# Altium footprint library ESD7008MUTAG.PcbLib: 1 footprints
Each footprint in its own frame and in the unit in brackets; x right, y up, seen from the top. Pads: shape width x height; smd on the part's side, far side on the other; paste and mask are expansions set on the pad; w line width, h text height; cw(c..) or ccw(c..) is an arc to the next point about the centre after c.
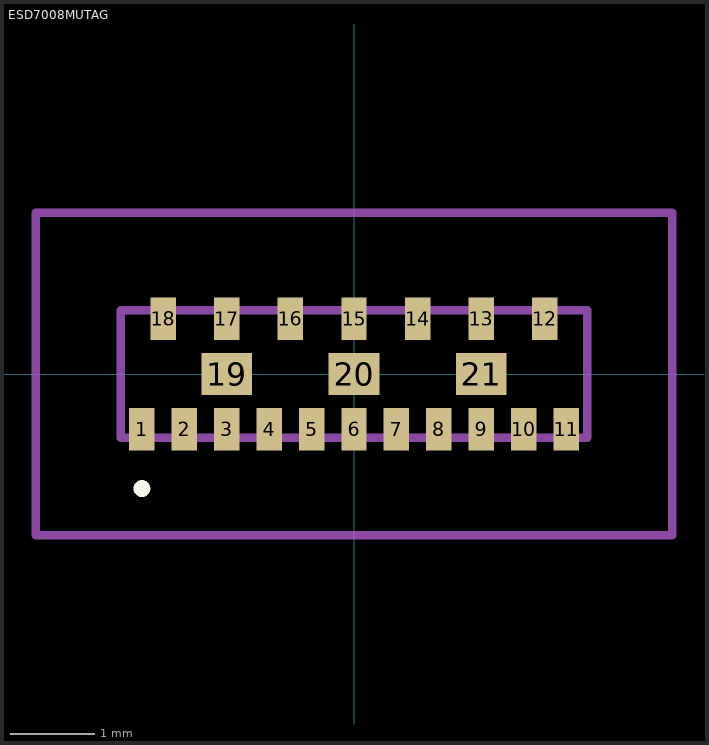
[diagram p0: the footprint, top view; thin cyan lines are the x and y axes]

## ESD7008MUTAG [mm]
pads (21):
  rect 0.3x0.5 smd: 1(-2.5,-0.65) 2(-2,-0.65) 3(-1.5,-0.65) 4(-1,-0.65) 5(-0.5,-0.65) 6(0,-0.65) 7(0.5,-0.65) 8(1,-0.65) 9(1.5,-0.65) 10(2,-0.65) 11(2.5,-0.65) 12(2.25,0.65) 13(1.5,0.65) 14(0.75,0.65) 15(0,0.65) 16(-0.75,0.65) 17(-1.5,0.65) 18(-2.25,0.65)
  rect 0.6x0.5 smd: 19(-1.5,0) 20(0,0) 21(1.5,0)
Top Overlay:
  lines w0.1: -2.5,-1.4 -2.5,-1.4 ; -2.5,-1.4 ccw(c-2.5,-1.35) -2.5,-1.3 ; -2.5,-1.4 cw(c-2.5,-1.35) -2.5,-1.3 ; -2.5,-1.3 -2.5,-1.3
Mechanical 15:
  lines w0.1: -2.75,-0.75 2.75,-0.75 2.75,0.75 -2.75,0.75 -2.75,-0.75
Mechanical 20:
  lines w0.1: -3.75,-1.9 3.75,-1.9 3.75,1.9 -3.75,1.9 -3.75,-1.9